# EAGLE library part HEADER_01X40 (library MF_Connectors)
Library: MF_Connectors Description: Header Connector with 40 Positions and 01 Rows. Use the LABEL Attribute to label the pin on the schematic and PCB. You can remove the attributes on the PCB by using the SMASH function on the part and then deleting the text.
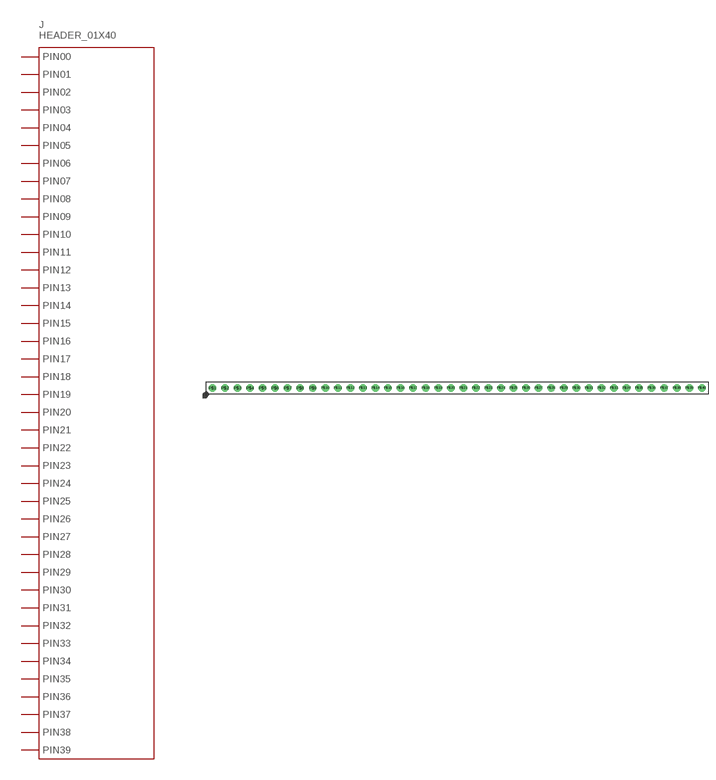
[diagram p2: symbol with the pads of PTH_2.54MM_01X40; footprint PTH_2.54MM_01X40]

Designator prefix J

## HEADER_01X40_PTH_2.54MM  [PTH_2.54MM_01X40]
P$1  PIN0
P$2  PIN1
P$3  PIN2
P$4  PIN3
P$5  PIN4
P$6  PIN5
P$7  PIN6
P$8  PIN7
P$9  PIN8
P$10  PIN9
P$11  PIN10
P$12  PIN11
P$13  PIN12
P$14  PIN13
P$15  PIN14
P$16  PIN15
P$17  PIN16
P$18  PIN17
P$19  PIN18
P$20  PIN19
P$21  PIN20
P$22  PIN21
P$23  PIN22
P$24  PIN23
P$25  PIN24
P$26  PIN25
P$27  PIN26
P$28  PIN27
P$29  PIN28
P$30  PIN29
P$31  PIN30
P$32  PIN31
P$33  PIN32
P$34  PIN33
P$35  PIN34
P$36  PIN35
P$37  PIN36
P$38  PIN37
P$39  PIN38
P$40  PIN39

## Footprint PTH_2.54MM_01X40 (pad centres in mm)
Description: Package for 2.54MM Pitch Header 40 Position. Based on 4UCON 00834.
drill 1: P$1 -49.53,0; P$2 -46.99,0; P$3 -44.45,0; P$4 -41.91,0; P$5 -39.37,0; P$6 -36.83,0; P$7 -34.29,0; P$8 -31.75,0; P$9 -29.21,0; P$10 -26.67,0; P$11 -24.13,0; P$12 -21.59,0; P$13 -19.05,0; P$14 -16.51,0; P$15 -13.97,0; P$16 -11.43,0; P$17 -8.89,0; P$18 -6.35,0; P$19 -3.81,0; P$20 -1.27,0; P$21 1.27,0; P$22 3.81,0; P$23 6.35,0; P$24 8.89,0; P$25 11.43,0; P$26 13.97,0; P$27 16.51,0; P$28 19.05,0; P$29 21.59,0; P$30 24.13,0; P$31 26.67,0; P$32 29.21,0; P$33 31.75,0; P$34 34.29,0; P$35 36.83,0; P$36 39.37,0; P$37 41.91,0; P$38 44.45,0; P$39 46.99,0; P$40 49.53,0